# EAGLE library part 74LVC244 (library IC & Transistor)
SMD Octal 3-state buffer 74LVC244
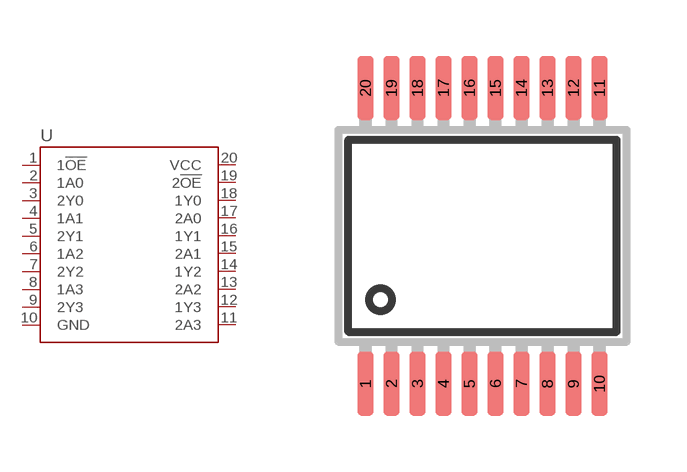
[diagram p46: symbol with the pads of SSOP-20; footprint SSOP-20]

Designator prefix -

## 74LVC244_(SSOP-20) (CYTRON-PC: S-IC-74LVC244-SSOP20; DESC: S Octal 3-state buffer 74LVC244 SSOP20; MF: NXP; MPN: 74LVC244APW)  [SSOP-20]
1  1!OE
2  1A0
3  2Y0
4  1A1
5  2Y1
6  1A2
7  2Y2
8  1A3
9  2Y3
10  GND  pwr
11  2A3
12  1Y3
13  2A2
14  1Y2
15  2A1
16  1Y1
17  2A0
18  1Y0
19  2!OE
20  VCC  pwr

## Footprint SSOP-20 (pad centres in mm)
Shrink Small Outline Package (SSOP) Size: 7.2 x 5.3mm Lead Pitch: 0.65mm
smd 0.4 x 1.6: 1 -2.925,-3.7; 2 -2.275,-3.7; 3 -1.625,-3.7; 4 -0.975,-3.7; 5 -0.325,-3.7; 6 0.325,-3.7; 7 0.975,-3.7; 8 1.625,-3.7; 9 2.275,-3.7; 10 2.925,-3.7; 11 2.925,3.7; 12 2.275,3.7; 13 1.625,3.7; 14 0.975,3.7; 15 0.325,3.7; 16 -0.325,3.7; 17 -0.975,3.7; 18 -1.625,3.7; 19 -2.275,3.7; 20 -2.925,3.7